# Altium schematic symbol library WE-VE ULC.SchLib: 3 symbols
Pins are listed as number, name and electrical type; pins without a type are passive.

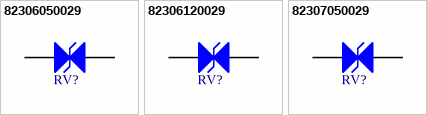
[diagram p0: symbols 82306050029 to 82307050029]

## 82306050029
designator RV?, comment 5VDC, 0.2pF  (value not drawn)
WE-VE ULC ESD Suppressor, size 0603, 5VDC, 0.2pF; Manufacturer Part Number: 82306050029; Manufacturer: Wurth Elektronik; Case/Size Code: 0603; Clamping Voltage: 30V; ESD Air Discharge Capability: 15kV; Insulation Resistance: 10MΩ; Leakage Current: 0.01µA; Operating Voltage (DC): 5V; Trigger Voltage: 150V; ComponentLink1Description: Website Link; ComponentLink1URL: https://www.we-online.com/redexpert/article/82306050029?ad; ComponentLink2Description: Datasheet Link; ComponentLink2URL: https://www.we-online.com/redexpert/spec/82306050029?ad; Category: ESD Protection; Match Code: WE-VE ULC; Mount: Surface Mount; Operating Temperature Max: 85°C; Operating Temperature Min: -40°C; Packaging: Tape and Reel; Length: 1.6mm; Width: 0.85mm; Height: 0.51mm; Capacitance: 0.2pF
footprint WE-VE ULC_0603
pins: 1, 2

## 82306120029
designator RV?, comment 12VDC, 0.2pF  (value not drawn)
WE-VE ULC ESD Suppressor, size 0603, 12VDC, 0.2pF; Manufacturer Part Number: 82306120029; Manufacturer: Wurth Elektronik; Case/Size Code: 0603; Clamping Voltage: 30V; ESD Air Discharge Capability: 15kV; Insulation Resistance: 10MΩ; Leakage Current: 0.01µA; Operating Voltage (DC): 12V; Trigger Voltage: 150V; ComponentLink1Description: Website Link; ComponentLink1URL: https://www.we-online.com/redexpert/article/82306120029?ad; ComponentLink2Description: Datasheet Link; ComponentLink2URL: https://www.we-online.com/redexpert/spec/82306120029?ad; Category: ESD Protection; Match Code: WE-VE ULC; Mount: Surface Mount; Operating Temperature Max: 85°C; Operating Temperature Min: -40°C; Packaging: Tape and Reel; Length: 1.6mm; Width: 0.85mm; Height: 0.51mm; Capacitance: 0.2pF
footprint WE-VE ULC_0603
pins: 1, 2

## 82307050029
designator RV?, comment 5VDC, 0.2pF  (value not drawn)
WE-VE ULC ESD Suppressor, size 0402, 5VDC, 0.2pF; Manufacturer Part Number: 82307050029; Manufacturer: Wurth Elektronik; Case/Size Code: 0402; Clamping Voltage: 17V; ESD Air Discharge Capability: 15kV; Insulation Resistance: 10MΩ; Leakage Current: 0.05µA; Operating Voltage (DC): 5V; Trigger Voltage: 100V; ComponentLink1Description: Website Link; ComponentLink1URL: https://www.we-online.com/redexpert/article/82307050029?ad; ComponentLink2Description: Datasheet Link; ComponentLink2URL: https://www.we-online.com/redexpert/spec/82307050029?ad; Category: ESD Protection; Match Code: WE-VE ULC; Mount: Surface Mount; Operating Temperature Max: 85°C; Operating Temperature Min: -40°C; Packaging: Tape and Reel; Length: 1mm; Width: 0.5mm; Height: 0.6mm; Capacitance: 0.2pF
footprint WE-VE ULC_0402
pins: 1, 2